# Altium footprint library National-M08A.PcbLib: 1 footprints
Each footprint in its own frame and in the unit in brackets; x right, y up, seen from the top. Pads: shape width x height; smd on the part's side, far side on the other; paste and mask are expansions set on the pad; w line width, h text height; cw(c..) or ccw(c..) is an arc to the next point about the centre after c.
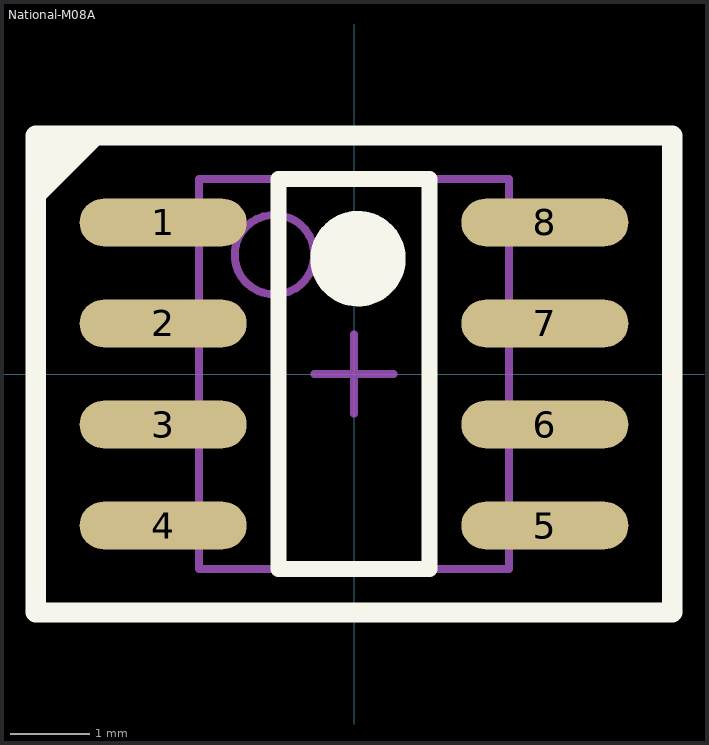
[diagram p0: the footprint, top view; thin cyan lines are the x and y axes]

## National-M08A [mm] "SOIC, 8-Leads, Body 4.9x3.9mm (max), Pitch 1.27mm, IPC Medium Density"
height 1.7
pads (8):
  oval 2.1x0.6 smd: 1(-2.4,1.905) 2(-2.4,0.635) 3(-2.4,-0.635) 4(-2.4,-1.905) 5(2.4,-1.905) 6(2.4,-0.635) 7(2.4,0.635) 8(2.4,1.905)
Top Overlay:
  circle w0.6: c0.05,1.45 r0.3
  region: -4,3 -3.25,3 -4,2.25
  lines w0.2: -0.95,-2.45 0.95,-2.45 0.95,2.45 -0.95,2.45 -0.95,-2.45
  lines w0.254: -4,2.25 -3.25,3 ; -4,-3 -4,3 4,3 4,-3 -4,-3
Mechanical 13:
  circle w0.1: c-1,1.5 r0.5
  lines w0.1: -1.95,-2.45 1.95,-2.45 1.95,2.45 -1.95,2.45 -1.95,-2.45
Mechanical 15:
  lines w0.1: -0.5,0 0.5,0 ; 0,-0.5 0,0.5 ; -4,-3 4,-3 4,3 -4,3 -4,-3
3D body: height 1.7, standoff 0.1, extent -1.95,-2.45 1.95,2.45